# Altium integrated library PIC16F15375.IntLib: 1 symbol
Pins are listed as number, name and electrical type; pins without a type are passive.

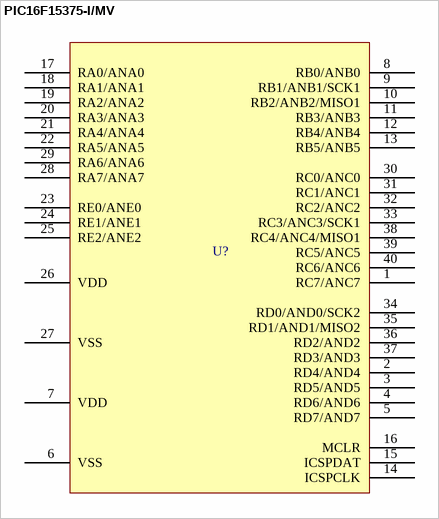
[diagram p0: symbol PIC16F15375-I/MV]

## PIC16F15375-I/MV
designator U?
footprint PIC16F15375-I/MV
pins: 1 RC7/ANC7, 2 RD4/AND4, 3 RD5/AND5, 4 RD6/AND6, 5 RD7/AND7, 6 VSS, 7 VDD, 8 RB0/ANB0, 9 RB1/ANB1/SCK1, 10 RB2/ANB2/MISO1, 11 RB3/ANB3, 12 RB4/ANB4, 13 RB5/ANB5, 14 ICSPCLK, 15 ICSPDAT, 16 MCLR, 17 RA0/ANA0, 18 RA1/ANA1, 19 RA2/ANA2, 20 RA3/ANA3, 21 RA4/ANA4, 22 RA5/ANA5, 23 RE0/ANE0, 24 RE1/ANE1, 25 RE2/ANE2, 26 VDD, 27 VSS, 28 RA7/ANA7, 29 RA6/ANA6, 30 RC0/ANC0, 31 RC1/ANC1, 32 RC2/ANC2, 33 RC3/ANC3/SCK1, 34 RD0/AND0/SCK2, 35 RD1/AND1/MISO2, 36 RD2/AND2, 37 RD3/AND3, 38 RC4/ANC4/MISO1, 39 RC5/ANC5, 40 RC6/ANC6